# Altium schematic symbol library KSZ8851SNL.SchLib: 1 symbol
Pins are listed as number, name and electrical type; pins without a type are passive.

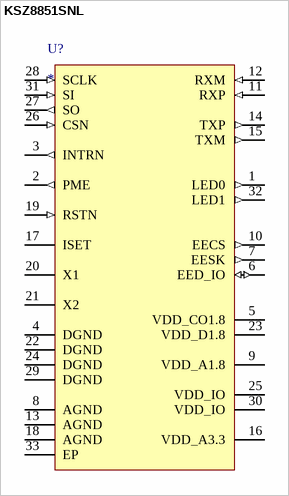
[diagram p0: symbol KSZ8851SNL]

## KSZ8851SNL
designator U?
pins: 1 LED0 (out), 2 PME (out), 3 INTRN (out), 4 DGND, 5 VDD_CO1.8 (power), 6 EED_IO (io), 7 EESK (out), 8 AGND, 9 VDD_A1.8 (power), 10 EECS (out), 11 RXP (in), 12 RXM (in), 13 AGND, 14 TXP (out), 15 TXM (out), 16 VDD_A3.3 (power), 17 ISET, 18 AGND, 19 RSTN (in), 20 X1, 21 X2, 22 DGND, 23 VDD_D1.8 (power), 24 DGND, 25 VDD_IO (power), 26 CSN (in), 27 SO (out), 28 SCLK (in), 29 DGND, 30 VDD_IO (power), 31 SI (in), 32 LED1 (out), 33 EP